# EAGLE library part TWE-001L* (library tocos)
ZigBee 2.4GHz Wireless transceiver module Source: http://tocos-wireless.com/files/datasheet/TWD-PDS-TWE001L-JP-1.30.pdf
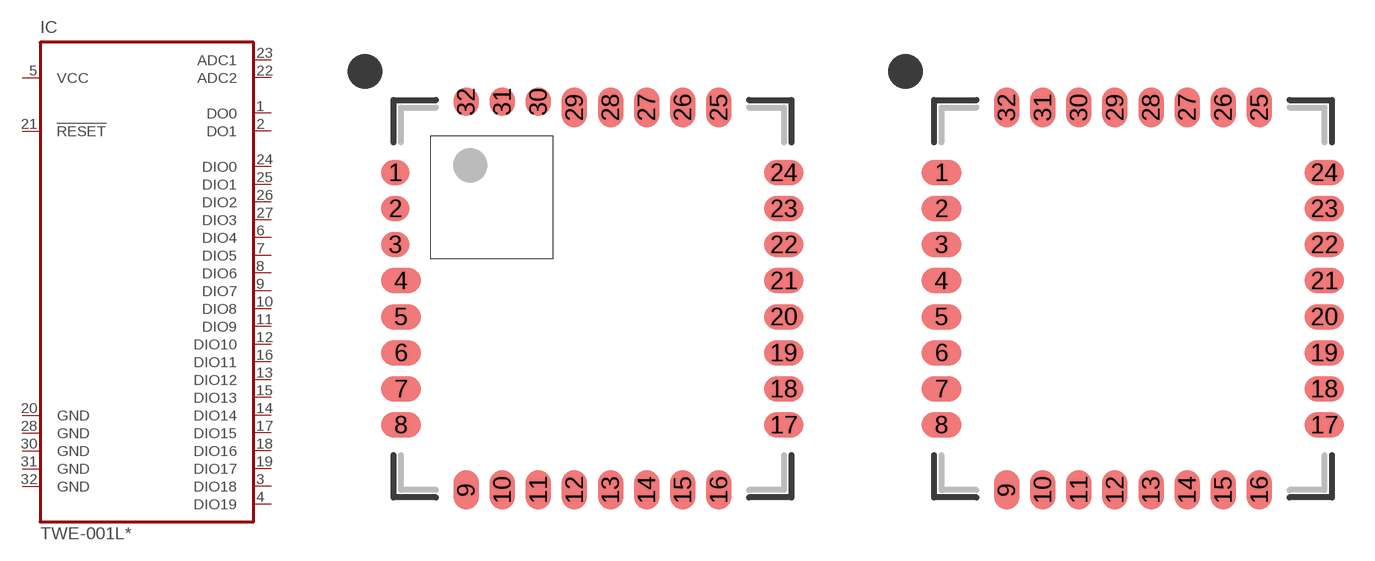
[diagram p0: symbol with the pads of QFN32-HOLE; footprints QFN32-HOLE, QFN32]

Designator prefix IC

## TWE-001L-NC  [QFN32-HOLE]
1  DO0  out
2  DO1  out
3  DIO18
4  DIO19
5  VCC  pwr
6  DIO4
7  DIO5
8  DIO6
9  DIO7
10  DIO8
11  DIO9
12  DIO10
13  DIO12
14  DIO14
15  DIO13
16  DIO11
17  DIO15
18  DIO16
19  DIO17
20  GND  pwr
21  !RESET  in
22  ADC2
23  ADC1
24  DIO0
25  DIO1
26  DIO2
27  DIO3
28  GND  pwr
30  GND  pwr
31  GND  pwr
32  GND  pwr

## TWE-001L-IP  [QFN32]
Pads as for QFN32-HOLE

## Footprint QFN32-HOLE (pad centres in mm)
smd 1 x 0.9: 1 -6.935,4.445; 2 -6.935,3.175; 3 -6.935,1.905
smd 1.4 x 0.9: 4 -6.735,0.635; 5 -6.735,-0.635; 6 -6.735,-1.905; 7 -6.735,-3.175; 8 -6.735,-4.445; 17 6.735,-4.445; 18 6.735,-3.175; 19 6.735,-1.905; 20 6.735,-0.635; 21 6.735,0.635; 22 6.735,1.905; 23 6.735,3.175; 24 6.735,4.445
smd 0.9 x 1.4: 9 -4.445,-6.735; 10 -3.175,-6.735; 11 -1.905,-6.735; 12 -0.635,-6.735; 13 0.635,-6.735; 14 1.905,-6.735; 15 3.175,-6.735; 16 4.445,-6.735; 25 4.445,6.735; 26 3.175,6.735; 27 1.905,6.735; 28 0.635,6.735; 29 -0.635,6.735
smd 0.9 x 1: 30 -1.905,6.935; 31 -3.175,6.935; 32 -4.445,6.935

## Footprint QFN32 (pad centres in mm)
smd 1.4 x 0.9: 1 -6.735,4.445; 2 -6.735,3.175; 3 -6.735,1.905; 4 -6.735,0.635; 5 -6.735,-0.635; 6 -6.735,-1.905; 7 -6.735,-3.175; 8 -6.735,-4.445; 17 6.735,-4.445; 18 6.735,-3.175; 19 6.735,-1.905; 20 6.735,-0.635; 21 6.735,0.635; 22 6.735,1.905; 23 6.735,3.175; 24 6.735,4.445
smd 0.9 x 1.4: 9 -4.445,-6.735; 10 -3.175,-6.735; 11 -1.905,-6.735; 12 -0.635,-6.735; 13 0.635,-6.735; 14 1.905,-6.735; 15 3.175,-6.735; 16 4.445,-6.735; 25 4.445,6.735; 26 3.175,6.735; 27 1.905,6.735; 28 0.635,6.735; 29 -0.635,6.735; 30 -1.905,6.735; 31 -3.175,6.735; 32 -4.445,6.735